# Altium footprint library CAPC3225X210N.PcbLib: 1 footprints
Each footprint in its own frame and in the unit in brackets; x right, y up, seen from the top. Pads: shape width x height; smd on the part's side, far side on the other; paste and mask are expansions set on the pad; w line width, h text height; cw(c..) or ccw(c..) is an arc to the next point about the centre after c.
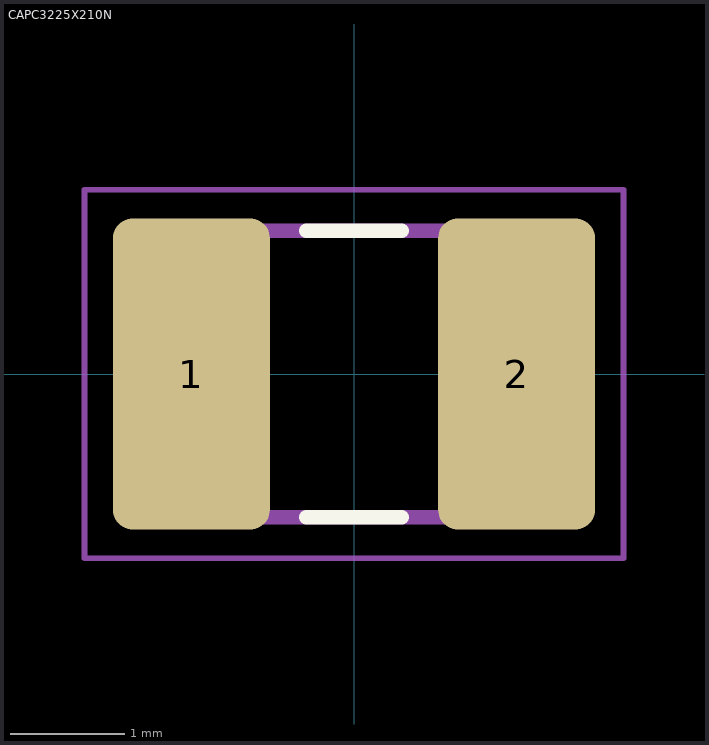
[diagram p0: the footprint, top view; thin cyan lines are the x and y axes]

## CAPC3225X210N [mm]
height 2.1
pads (2):
  rrect25% 1.37x2.72 smd: 1(-1.42,0) 2(1.42,0)
Top Overlay:
  lines w0.127: -0.415,-1.25 0.415,-1.25 ; -0.415,1.25 0.415,1.25
Assembly Top:
  lines w0.127: -1.6,-1.25 1.6,-1.25 1.6,1.25 -1.6,1.25 -1.6,-1.25
Courtyard Top:
  lines w0.05: -2.355,-1.61 2.355,-1.61 2.355,1.61 -2.355,1.61 -2.355,-1.61